# EAGLE library part COREH743I (library waveshare)
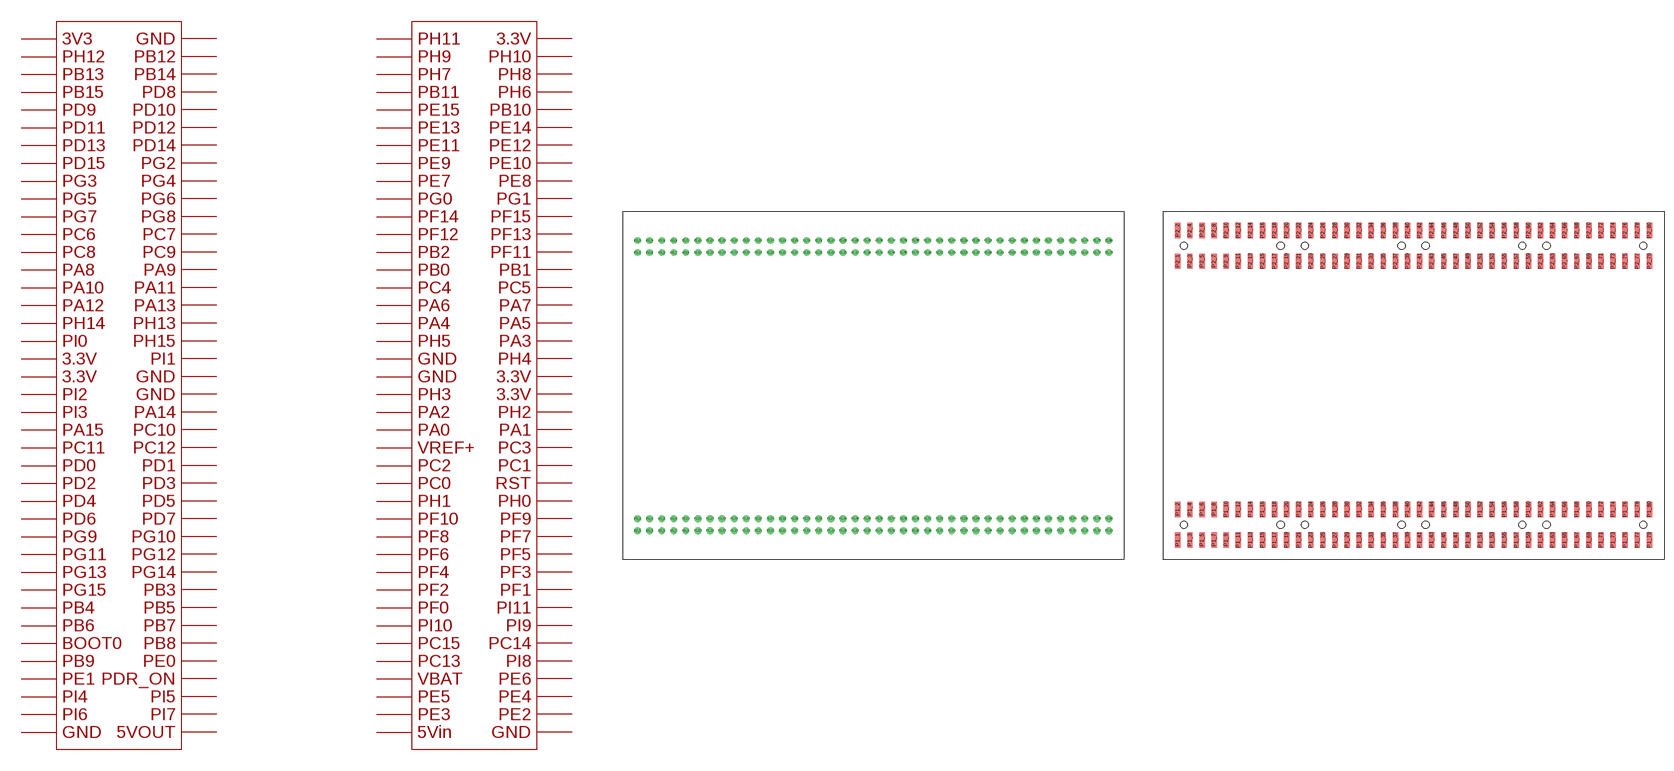
[diagram p1: symbol with the pads of CORE_MODULE_THT; footprints CORE_MODULE_THT, CORE_MODULE_SMT]

Designator prefix MOD; gates G$1=COREH743I_P1 G$2=COREH743I_P2

## COREH743IT  [CORE_MODULE_THT]
P1_1  G$1:P1_1
P1_2  G$1:P1_2
P1_3  G$1:P1_3
P1_4  G$1:P1_4
P1_5  G$1:P1_5
P1_6  G$1:P1_6
P1_7  G$1:P1_7
P1_8  G$1:P1_8
P1_9  G$1:P1_9
P1_10  G$1:P1_10
P1_11  G$1:P1_11
P1_12  G$1:P1_12
P1_13  G$1:P1_13
P1_14  G$1:P1_14
P1_15  G$1:P1_15
P1_16  G$1:P1_16
P1_17  G$1:P1_17
P1_18  G$1:P1_18
P1_19  G$1:P1_19
P1_20  G$1:P1_20
P1_21  G$1:P1_21
P1_22  G$1:P1_22
P1_23  G$1:P1_23
P1_24  G$1:P1_24
P1_25  G$1:P1_25
P1_26  G$1:P1_26
P1_27  G$1:P1_27
P1_28  G$1:P1_28
P1_29  G$1:P1_29
P1_30  G$1:P1_30
P1_31  G$1:P1_31
P1_32  G$1:P1_32
P1_33  G$1:P1_33
P1_34  G$1:P1_34
P1_35  G$1:P1_35
P1_36  G$1:P1_36
P1_37  G$1:P1_37
P1_38  G$1:P1_38
P1_39  G$1:P1_39
P1_40  G$1:P1_40
P1_41  G$1:P1_41
P1_42  G$1:P1_42
P1_43  G$1:P1_43
P1_44  G$1:P1_44
P1_45  G$1:P1_45
P1_46  G$1:P1_46
P1_47  G$1:P1_47
P1_48  G$1:P1_48
P1_49  G$1:P1_49
P1_50  G$1:P1_50
P1_51  G$1:P1_51
P1_52  G$1:P1_52
P1_53  G$1:P1_53
P1_54  G$1:P1_54
P1_55  G$1:P1_55
P1_56  G$1:P1_56
P1_57  G$1:P1_57
P1_58  G$1:P1_58
P1_59  G$1:P1_59
P1_60  G$1:P1_60
P1_61  G$1:P1_61
P1_62  G$1:P1_62
P1_63  G$1:P1_63
P1_64  G$1:P1_64
P1_65  G$1:P1_65
P1_66  G$1:P1_66
P1_67  G$1:P1_67
P1_68  G$1:P1_68
P1_69  G$1:P1_69
P1_70  G$1:P1_70
P1_71  G$1:P1_71
P1_72  G$1:P1_72
P1_73  G$1:P1_73
P1_74  G$1:P1_74
P1_75  G$1:P1_75
P1_76  G$1:P1_76
P1_77  G$1:P1_77
P1_78  G$1:P1_78
P1_79  G$1:P1_79
P1_80  G$1:P1_80
P2_1  G$2:P2_1
P2_2  G$2:P2_2
P2_3  G$2:P2_3
P2_4  G$2:P2_4
P2_5  G$2:P2_5
P2_6  G$2:P2_6
P2_7  G$2:P2_7
P2_8  G$2:P2_8
P2_9  G$2:P2_9
P2_10  G$2:P2_10
P2_11  G$2:P2_11
P2_12  G$2:P2_12
P2_13  G$2:P2_13
P2_14  G$2:P2_14
P2_15  G$2:P2_15
P2_16  G$2:P2_16
P2_17  G$2:P2_17
P2_18  G$2:P2_18
P2_19  G$2:P2_19
P2_20  G$2:P2_20
P2_21  G$2:P2_21
P2_22  G$2:P2_22
P2_23  G$2:P2_23
P2_24  G$2:P2_24
P2_25  G$2:P2_25
P2_26  G$2:P2_26
P2_27  G$2:P2_27
P2_28  G$2:P2_28
P2_29  G$2:P2_29
P2_30  G$2:P2_30
P2_31  G$2:P2_31
P2_32  G$2:P2_32
P2_33  G$2:P2_33
P2_34  G$2:P2_34
P2_35  G$2:P2_35
P2_36  G$2:P2_36
P2_37  G$2:P2_37
P2_38  G$2:P2_38
P2_39  G$2:P2_39
P2_40  G$2:P2_40
P2_41  G$2:P2_41
P2_42  G$2:P2_42
P2_43  G$2:P2_43
P2_44  G$2:P2_44
P2_45  G$2:P2_45
P2_46  G$2:P2_46
P2_47  G$2:P2_47
P2_48  G$2:P2_48
P2_49  G$2:P2_49
P2_50  G$2:P2_50
P2_51  G$2:P2_51
P2_52  G$2:P2_52
P2_53  G$2:P2_53
P2_54  G$2:P2_54
P2_55  G$2:P2_55
P2_56  G$2:P2_56
P2_57  G$2:P2_57
P2_58  G$2:P2_58
P2_59  G$2:P2_59
P2_60  G$2:P2_60
P2_61  G$2:P2_61
P2_62  G$2:P2_62
P2_63  G$2:P2_63
P2_64  G$2:P2_64
P2_65  G$2:P2_65
P2_66  G$2:P2_66
P2_67  G$2:P2_67
P2_68  G$2:P2_68
P2_69  G$2:P2_69
P2_70  G$2:P2_70
P2_71  G$2:P2_71
P2_72  G$2:P2_72
P2_73  G$2:P2_73
P2_74  G$2:P2_74
P2_75  G$2:P2_75
P2_76  G$2:P2_76
P2_77  G$2:P2_77
P2_78  G$2:P2_78
P2_79  G$2:P2_79
P2_80  G$2:P2_80

## COREH743IS  [CORE_MODULE_SMT]
Pads as for CORE_MODULE_THT

## Footprint CORE_MODULE_THT (pad centres in mm)
drill 0.6: P1_1 0,0; P1_2 0,2; P1_3 2,0; P1_4 2,2; P1_5 4,0; P1_6 4,2; P1_7 6,0; P1_8 6,2; P1_9 8,0; P1_10 8,2; P1_11 10,0; P1_12 10,2; P1_13 12,0; P1_14 12,2; P1_15 14,0; P1_16 14,2; P1_17 16,0; P1_18 16,2; P1_19 18,0; P1_20 18,2; P1_21 20,0; P1_22 20,2; P1_23 22,0; P1_24 22,2; P1_25 24,0; P1_26 24,2; P1_27 26,0; P1_28 26,2; P1_29 28,0; P1_30 28,2; P1_31 30,0; P1_32 30,2; P1_33 32,0; P1_34 32,2; P1_35 34,0; P1_36 34,2; P1_37 36,0; P1_38 36,2; P1_39 38,0; P1_40 38,2; P1_41 40,0; P1_42 40,2; P1_43 42,0; P1_44 42,2; P1_45 44,0; P1_46 44,2; P1_47 46,0; P1_48 46,2; P1_49 48,0; P1_50 48,2; P1_51 50,0; P1_52 50,2; P1_53 52,0; P1_54 52,2; P1_55 54,0; P1_56 54,2; P1_57 56,0; P1_58 56,2; P1_59 58,0; P1_60 58,2; P1_61 60,0; P1_62 60,2; P1_63 62,0; P1_64 62,2; P1_65 64,0; P1_66 64,2; P1_67 66,0; P1_68 66,2; P1_69 68,0; P1_70 68,2; P1_71 70,0; P1_72 70,2; P1_73 72,0; P1_74 72,2; P1_75 74,0; P1_76 74,2; P1_77 76,0; P1_78 76,2; P1_79 78,0; P1_80 78,2; P2_1 0,46; P2_2 0,48; P2_3 2,46; P2_4 2,48; P2_5 4,46; P2_6 4,48; P2_7 6,46; P2_8 6,48; P2_9 8,46; P2_10 8,48; P2_11 10,46; P2_12 10,48; P2_13 12,46; P2_14 12,48; P2_15 14,46; P2_16 14,48; P2_17 16,46; P2_18 16,48; P2_19 18,46; P2_20 18,48; P2_21 20,46; P2_22 20,48; P2_23 22,46; P2_24 22,48; P2_25 24,46; P2_26 24,48; P2_27 26,46; P2_28 26,48; P2_29 28,46; P2_30 28,48; P2_31 30,46; P2_32 30,48; P2_33 32,46; P2_34 32,48; P2_35 34,46; P2_36 34,48; P2_37 36,46; P2_38 36,48; P2_39 38,46; P2_40 38,48; P2_41 40,46; P2_42 40,48; P2_43 42,46; P2_44 42,48; P2_45 44,46; P2_46 44,48; P2_47 46,46; P2_48 46,48; P2_49 48,46; P2_50 48,48; P2_51 50,46; P2_52 50,48; P2_53 52,46; P2_54 52,48; P2_55 54,46; P2_56 54,48; P2_57 56,46; P2_58 56,48; P2_59 58,46; P2_60 58,48; P2_61 60,46; P2_62 60,48; P2_63 62,46; P2_64 62,48; P2_65 64,46; P2_66 64,48; P2_67 66,46; P2_68 66,48; P2_69 68,46; P2_70 68,48; P2_71 70,46; P2_72 70,48; P2_73 72,46; P2_74 72,48; P2_75 74,46; P2_76 74,48; P2_77 76,46; P2_78 76,48; P2_79 78,46; P2_80 78,48

## Footprint CORE_MODULE_SMT (pad centres in mm)
This version uses eight ZL266-20DG headers from NINIGI
smd 0.89 x 2.54: P1_1 0,0; P1_2 0,5.08; P1_3 2,0; P1_4 2,5.08; P1_5 4,0; P1_6 4,5.08; P1_7 6,0; P1_8 6,5.08; P1_9 8,0; P1_10 8,5.08; P1_11 10,0; P1_12 10,5.08; P1_13 12,0; P1_14 12,5.08; P1_15 14,0; P1_16 14,5.08; P1_17 16,0; P1_18 16,5.08; P1_19 18,0; P1_20 18,5.08; P1_21 20,0; P1_22 20,5.08; P1_23 22,0; P1_24 22,5.08; P1_25 24,0; P1_26 24,5.08; P1_27 26,0; P1_28 26,5.08; P1_29 28,0; P1_30 28,5.08; P1_31 30,0; P1_32 30,5.08; P1_33 32,0; P1_34 32,5.08; P1_35 34,0; P1_36 34,5.08; P1_37 36,0; P1_38 36,5.08; P1_39 38,0; P1_40 38,5.08; P1_41 40,0; P1_42 40,5.08; P1_43 42,0; P1_44 42,5.08; P1_45 44,0; P1_46 44,5.08; P1_47 46,0; P1_48 46,5.08; P1_49 48,0; P1_50 48,5.08; P1_51 50,0; P1_52 50,5.08; P1_53 52,0; P1_54 52,5.08; P1_55 54,0; P1_56 54,5.08; P1_57 56,0; P1_58 56,5.08; P1_59 58,0; P1_60 58,5.08; P1_61 60,0; P1_62 60,5.08; P1_63 62,0; P1_64 62,5.08; P1_65 64,0; P1_66 64,5.08; P1_67 66,0; P1_68 66,5.08; P1_69 68,0; P1_70 68,5.08; P1_71 70,0; P1_72 70,5.08; P1_73 72,0; P1_74 72,5.08; P1_75 74,0; P1_76 74,5.08; P1_77 76,0; P1_78 76,5.08; P1_79 78,0; P1_80 78,5.08; P2_1 0,46.12; P2_2 0,51.2; P2_3 2,46.12; P2_4 2,51.2; P2_5 4,46.12; P2_6 4,51.2; P2_7 6,46.12; P2_8 6,51.2; P2_9 8,46.12; P2_10 8,51.2; P2_11 10,46.12; P2_12 10,51.2; P2_13 12,46.12; P2_14 12,51.2; P2_15 14,46.12; P2_16 14,51.2; P2_17 16,46.12; P2_18 16,51.2; P2_19 18,46.12; P2_20 18,51.2; P2_21 20,46.12; P2_22 20,51.2; P2_23 22,46.12; P2_24 22,51.2; P2_25 24,46.12; P2_26 24,51.2; P2_27 26,46.12; P2_28 26,51.2; P2_29 28,46.12; P2_30 28,51.2; P2_31 30,46.12; P2_32 30,51.2; P2_33 32,46.12; P2_34 32,51.2; P2_35 34,46.12; P2_36 34,51.2; P2_37 36,46.12; P2_38 36,51.2; P2_39 38,46.12; P2_40 38,51.2; P2_41 40,46.12; P2_42 40,51.2; P2_43 42,46.12; P2_44 42,51.2; P2_45 44,46.12; P2_46 44,51.2; P2_47 46,46.12; P2_48 46,51.2; P2_49 48,46.12; P2_50 48,51.2; P2_51 50,46.12; P2_52 50,51.2; P2_53 52,46.12; P2_54 52,51.2; P2_55 54,46.12; P2_56 54,51.2; P2_57 56,46.12; P2_58 56,51.2; P2_59 58,46.12; P2_60 58,51.2; P2_61 60,46.12; P2_62 60,51.2; P2_63 62,46.12; P2_64 62,51.2; P2_65 64,46.12; P2_66 64,51.2; P2_67 66,46.12; P2_68 66,51.2; P2_69 68,46.12; P2_70 68,51.2; P2_71 70,46.12; P2_72 70,51.2; P2_73 72,46.12; P2_74 72,51.2; P2_75 74,46.12; P2_76 74,51.2; P2_77 76,46.12; P2_78 76,51.2; P2_79 78,46.12; P2_80 78,51.2
hole 1.2 at 1,2.54
hole 1.2 at 17,2.54
hole 1.2 at 21,2.54
hole 1.2 at 37,2.54
hole 1.2 at 41,2.54
hole 1.2 at 57,2.54
hole 1.2 at 61,2.54
hole 1.2 at 77,2.54
hole 1.2 at 1,48.66
hole 1.2 at 17,48.66
hole 1.2 at 21,48.66
hole 1.2 at 37,48.66
hole 1.2 at 41,48.66
hole 1.2 at 57,48.66
hole 1.2 at 61,48.66
hole 1.2 at 77,48.66